# Altium footprint library OKI-78SR-5_1.5-W36-C.PcbLib: 1 footprints
Each footprint in its own frame and in the unit in brackets; x right, y up, seen from the top. Pads: shape width x height; smd on the part's side, far side on the other; paste and mask are expansions set on the pad; w line width, h text height; cw(c..) or ccw(c..) is an arc to the next point about the centre after c.
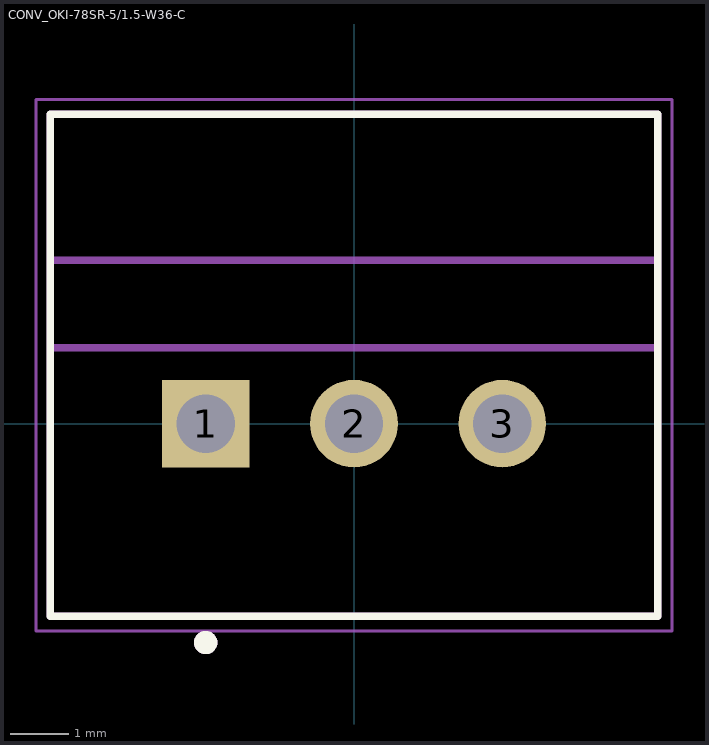
[diagram p0: the footprint, top view; thin cyan lines are the x and y axes]

## CONV_OKI-78SR-5/1.5-W36-C [mm]
pads (3):
  rect 1.5x1.5 hole 1: 1(-2.54,0)
  round 1.5 hole 1: 2(0,0) 3(2.54,0)
Top Overlay:
  circle w0.2: c-2.54,-3.75 r0.1
  lines w0.127: -5.2,-3.3 5.2,-3.3 5.2,5.3 -5.2,5.3 -5.2,-3.3
Mechanical 13:
  circle w0.2: c-2.54,-3.75 r0.1
  lines w0.127: -5.2,1.3 -5.2,-3.3 5.2,-3.3 5.2,1.3 ; -5.2,1.3 -5.2,2.8 ; -5.2,1.3 5.2,1.3 ; -5.2,2.8 -5.2,5.3 5.2,5.3 5.2,2.8 ; -5.2,2.8 5.2,2.8 ; 5.2,1.3 5.2,2.8
Mechanical 15:
  lines w0.05: -5.45,-3.55 5.45,-3.55 5.45,5.55 -5.45,5.55 -5.45,-3.55
3D body "1.5-W36-C--3DModel-STEP-56544.STEP": height 16.51, standoff -3.3, extent -5.207,-3.302 5.207,5.334